# EAGLE library part DRV2605LDGST (library DRV2605LDGST)
ERM & LRA Device Haptic Driver 2-5V BGA9 Texas Instruments DRV2605LDGST Piezo Haptic Motor Driver IC, 5 V, 10-Pin VSSOP Source: Datasheet <http://www.ti.com/lit/ds/symlink/drv2605l.pdf>
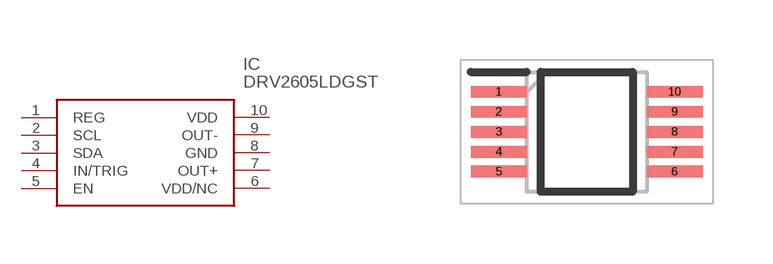
[diagram p0: symbol with the pads of SOP50P490X110-10N; footprint SOP50P490X110-10N]

Designator prefix IC

## DRV2605LDGST (Arrow_Part_Number: DRV2605LDGST; Arrow_Price-Stock: https://www.arrow.com/en/products/drv2605ldgst/texas-instruments?region=nac; Description: ERM & LRA Device Haptic Driver 2-5V BGA9 Texas Instruments DRV2605LDGST Piezo Haptic Motor Driver IC, 5 V, 10-Pin VSSOP; Height: 1.1mm; Manufacturer_Name: Texas Instruments; Manufacturer_Part_Number: DRV2605LDGST; Mouser_Part_Number: 595-DRV2605LDGST; Mouser_Price-Stock: https://www.mouser.co.uk/ProductDetail/Texas-Instruments/DRV2605LDGST?qs=asCBFxFfL1TjvcNdZsR2BA%3D%3D)  [SOP50P490X110-10N]
1  REG
2  SCL
3  SDA
4  IN/TRIG
5  EN
6  VDD/NC
7  OUT+
8  GND
9  OUT-
10  VDD

## Footprint SOP50P490X110-10N (pad centres in mm)
DGS (S-PDSO-G10)
smd 1.4 x 0.3: 1 -2.2,1; 2 -2.2,0.5; 3 -2.2,0; 4 -2.2,-0.5; 5 -2.2,-1; 6 2.2,-1; 7 2.2,-0.5; 8 2.2,0; 9 2.2,0.5; 10 2.2,1